# Altium schematic symbol library SD-4-B.SchLib: 1 symbol
Pins are listed as number, name and electrical type; pins without a type are passive.

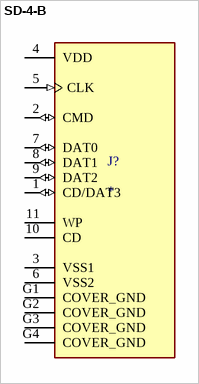
[diagram p0: symbol SD-4-B]

## SD-4-B
designator J?
SD Card Connector, 11 Positions, Connector, Push In, Pull Out, Surface Mount, 2.8 mm Height Above Board, Gold Flash; MF: CUI Devices; MP: SD-4-B; SnapEDA_Link: https://www.snapeda.com/parts/SD-4-B/CUI+Devices/view-part/?ref=snap; Package: None; Value: *; CUI_purchase_URL: https://www.cuidevices.com/product/interconnect/connectors/memory-card-connectors/sd-card-connectors/sd-4-b?utm_source=snapeda.com&utm_medium=referral&utm_campaign=snapedaBOM; Check_prices: https://www.snapeda.com/parts/SD-4-B/CUI+Devices/view-part/?ref=eda
footprint CUI_SD-4-B
pins: 1 CD/DAT3 (io), 2 CMD (io), 3 VSS1 (power), 4 VDD (power), 5 CLK (in), 6 VSS2 (power), 7 DAT0 (io), 8 DAT1 (io), 9 DAT2 (io), 10 CD, 11 WP, G1 COVER_GND (power), G2 COVER_GND (power), G3 COVER_GND (power), G4 COVER_GND (power)